# EAGLE library part GKPORT_SMD (library 029000100  -  gKEagleLibrary)
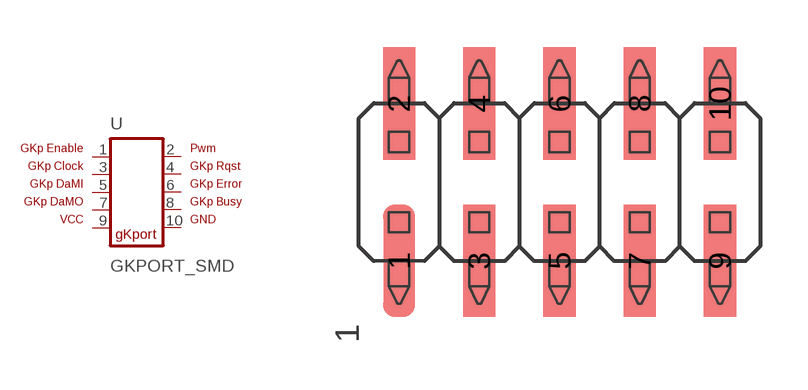
[diagram p2: symbol with the pads of GKPORT_SMD; footprint GKPORT_SMD]

Designator prefix -

## GKPORT_SMD  [GKPORT_SMD]
1  EN  pas
2  PWM  pas
3  CK  pas
4  RQ  pas
5  MI  pas
6  ER  pas
7  MO  pas
8  BY  pas
9  VCC  pwr
10  GND  pwr

## Footprint GKPORT_SMD (pad centres in mm)
smd 1.016 x 3.556: 1 1.27,0.052; 2 1.27,5.028; 3 3.81,0.052; 4 3.81,5.028; 5 6.35,0.052; 6 6.35,5.028; 7 8.89,0.05; 8 8.89,5.028; 9 11.43,0.052; 10 11.43,5.028